# EAGLE library part SN74HC164D (library other)
8-Bit Parallel-Out Serial Shift Registers Source: Datasheet <http://www.ti.com/lit/ds/symlink/sn74hc164.pdf>
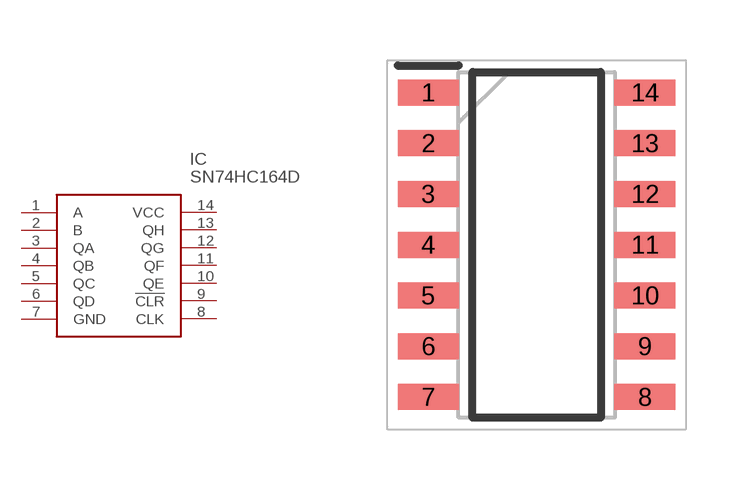
[diagram p8: symbol with the pads of SOIC127P600X175-14N; footprint SOIC127P600X175-14N]

Designator prefix IC

## SN74HC164D (ARROW_PART_NUMBER: SN74HC164D; ARROW_PRICE/STOCK: https://www.arrow.com/en/products/sn74hc164d/texas-instruments; DESCRIPTION: 8-Bit Parallel-Out Serial Shift Registers; HEIGHT: 1.75mm; MANUFACTURER_NAME: Texas Instruments; MANUFACTURER_PART_NUMBER: SN74HC164D; RS_PART_NUMBER: 2508244630; RS_PRICE/STOCK: http://uk.rs-online.com/web/p/products/2508244630)  [SOIC127P600X175-14N]
1  A
2  B
3  QA
4  QB
5  QC
6  QD
7  GND  pwr
8  CLK  in
9  !CLR
10  QE
11  QF
12  QG
13  QH
14  VCC  pwr

## Footprint SOIC127P600X175-14N (pad centres in mm)
D(R-PDSO-G14)
smd 1.525 x 0.65: 1 -2.712,3.81; 2 -2.712,2.54; 3 -2.712,1.27; 4 -2.712,0; 5 -2.712,-1.27; 6 -2.712,-2.54; 7 -2.712,-3.81; 8 2.712,-3.81; 9 2.712,-2.54; 10 2.712,-1.27; 11 2.712,0; 12 2.712,1.27; 13 2.712,2.54; 14 2.712,3.81